# Altium schematic symbol library yu0316-NSC_LDO.SchLib: 2590 symbols (part 13 of 64)
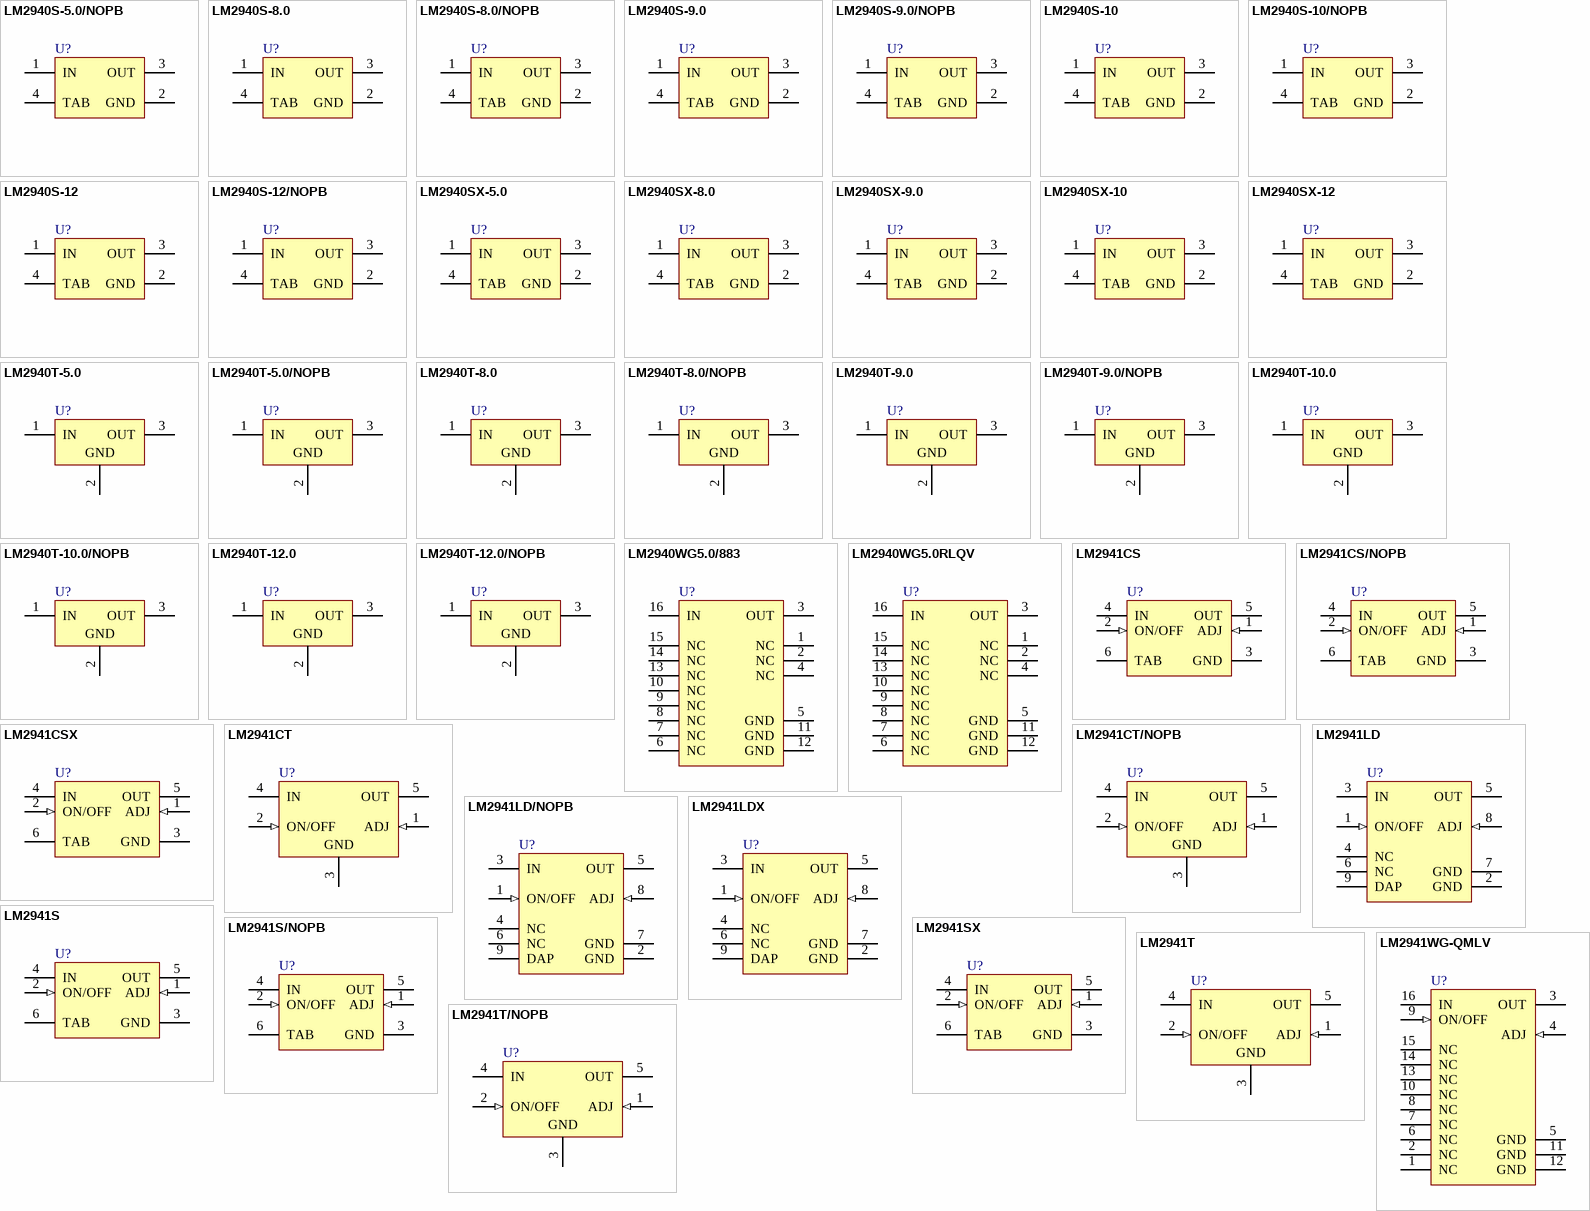
[diagram p77: symbols LM2940S-5.0/NOPB to LM2941WG-QMLV]

## LM2940S-10/NOPB
designator U?
1A Low Dropout Regulator, 3-pin TO-263, Pb-Free; PartNumber: LM2940S-10/NOPB; Manufacturer: National Semiconductor; PackageTopMarking: NSUZXYTTE#*LM2940S*-10 P+; PowerWise: N; CompType: LDO IC; Published: 1-Mar-2010; DatasheetVersion: Jan-2007; PackageVersion: revF, Apr-2005; PackageReference: TS3B; Publisher: Altium Limited; PackageDescription: TO-263, Molded, .400 x .390 x .180in, 3 Lead, .1in Pitch, Surface Mount; Supplier 1: Digi-Key; Supplier Part Number 1: LM2940S-10-ND; Supplier 2: Farnell; Supplier Part Number 2: 1685528; RoHS: Y; PinCount: 3; Code_JEDEC: MO-169-AA; ComponentLink1Description: LM2940 Datasheet; ComponentLink1URL: http://www.national.com/ds/LM/LM2940.pdf; ComponentLink2Description: LM2940 Web Page; ComponentLink2URL: http://www.national.com/pf/LM/LM2940.html; ComponentLink3Description: TS3B Package Page; ComponentLink3URL: http://www.national.com/packaging/folders/ts3b.html
footprint TS3B_N (D2-PAK, 4-Leads, Body 8.6x10.2mm, Pitch 2.54mm, Lead Span 14.2mm, IPC Medium Density)
footprint TS3B_L (D2-PAK, 4-Leads, Body 8.6x10.2mm, Pitch 2.54mm, Lead Span 14.2mm, IPC High Density)
footprint TS3B_M (D2-PAK, 4-Leads, Body 8.6x10.2mm, Pitch 2.54mm, Lead Span 14.2mm, IPC Low Density)
pins: 1 IN (power), 2 GND (power), 3 OUT (power), 4 TAB (power)

## LM2940S-12
designator U?
1A Low Dropout Regulator, 3-pin TO-263; PartNumber: LM2940S-12; Manufacturer: National Semiconductor; PackageTopMarking: NSUZXYTTE#*LM2940S*-12 P+; PowerWise: N; CompType: LDO IC; Published: 4-Dec-2008; DatasheetVersion: Jan-2007; PackageVersion: revF, Apr-2005; PackageReference: TS3B; Publisher: Altium Limited; PackageDescription: TO-263, Molded, .400 x .390 x .180in, 3 Lead, .1in Pitch, Surface Mount; Supplier 1: Farnell; Supplier Part Number 1: 953416; RoHS: N; PinCount: 3; Code_JEDEC: MO-169-AA; ComponentLink1Description: LM2940 Datasheet; ComponentLink1URL: http://www.national.com/ds/LM/LM2940.pdf; ComponentLink2Description: LM2940 Web Page; ComponentLink2URL: http://www.national.com/pf/LM/LM2940.html; ComponentLink3Description: TS3B Package Page; ComponentLink3URL: http://www.national.com/packaging/folders/ts3b.html
footprint TS3B_N (D2-PAK, 4-Leads, Body 8.6x10.2mm, Pitch 2.54mm, Lead Span 14.2mm, IPC Medium Density)
footprint TS3B_L (D2-PAK, 4-Leads, Body 8.6x10.2mm, Pitch 2.54mm, Lead Span 14.2mm, IPC High Density)
footprint TS3B_M (D2-PAK, 4-Leads, Body 8.6x10.2mm, Pitch 2.54mm, Lead Span 14.2mm, IPC Low Density)
pins: 1 IN (power), 2 GND (power), 3 OUT (power), 4 TAB (power)

## LM2940S-12/NOPB
designator U?
1A Low Dropout Regulator, 3-pin TO-263, Pb-Free; PartNumber: LM2940S-12/NOPB; Manufacturer: National Semiconductor; PackageTopMarking: NSUZXYTTE#*LM2940S*-12 P+; PowerWise: N; CompType: LDO IC; Published: 1-Mar-2010; DatasheetVersion: Jan-2007; PackageVersion: revF, Apr-2005; PackageReference: TS3B; Publisher: Altium Limited; PackageDescription: TO-263, Molded, .400 x .390 x .180in, 3 Lead, .1in Pitch, Surface Mount; Supplier 1: Digi-Key; Supplier Part Number 1: LM2940S-12-ND; Supplier 2: Farnell; Supplier Part Number 2: 1564769; RoHS: Y; PinCount: 3; Code_JEDEC: MO-169-AA; ComponentLink1Description: LM2940 Datasheet; ComponentLink1URL: http://www.national.com/ds/LM/LM2940.pdf; ComponentLink2Description: LM2940 Web Page; ComponentLink2URL: http://www.national.com/pf/LM/LM2940.html; ComponentLink3Description: TS3B Package Page; ComponentLink3URL: http://www.national.com/packaging/folders/ts3b.html
footprint TS3B_N (D2-PAK, 4-Leads, Body 8.6x10.2mm, Pitch 2.54mm, Lead Span 14.2mm, IPC Medium Density)
footprint TS3B_L (D2-PAK, 4-Leads, Body 8.6x10.2mm, Pitch 2.54mm, Lead Span 14.2mm, IPC High Density)
footprint TS3B_M (D2-PAK, 4-Leads, Body 8.6x10.2mm, Pitch 2.54mm, Lead Span 14.2mm, IPC Low Density)
pins: 1 IN (power), 2 GND (power), 3 OUT (power), 4 TAB (power)

## LM2940SX-5.0
designator U?
1A Low Dropout Regulator, 3-pin TO-263; PartNumber: LM2940SX-5.0; Manufacturer: National Semiconductor; PackageTopMarking: NSUZXYTTE#*LM2940S*-5.0 P+; PowerWise: N; CompType: LDO IC; Published: 1-Mar-2010; DatasheetVersion: Jan-2007; PackageVersion: revF, Apr-2005; PackageReference: TS3B; Publisher: Altium Limited; PackageDescription: TO-263, Molded, .400 x .390 x .180in, 3 Lead, .1in Pitch, Surface Mount; RoHS: N; PinCount: 3; Code_JEDEC: MO-169-AA; ComponentLink1Description: LM2940 Datasheet; ComponentLink1URL: http://www.national.com/ds/LM/LM2940.pdf; ComponentLink2Description: LM2940 Web Page; ComponentLink2URL: http://www.national.com/pf/LM/LM2940.html; ComponentLink3Description: TS3B Package Page; ComponentLink3URL: http://www.national.com/packaging/folders/ts3b.html
footprint TS3B_N (D2-PAK, 4-Leads, Body 8.6x10.2mm, Pitch 2.54mm, Lead Span 14.2mm, IPC Medium Density)
footprint TS3B_L (D2-PAK, 4-Leads, Body 8.6x10.2mm, Pitch 2.54mm, Lead Span 14.2mm, IPC High Density)
footprint TS3B_M (D2-PAK, 4-Leads, Body 8.6x10.2mm, Pitch 2.54mm, Lead Span 14.2mm, IPC Low Density)
pins: 1 IN (power), 2 GND (power), 3 OUT (power), 4 TAB (power)

## LM2940SX-8.0
designator U?
1A Low Dropout Regulator, 3-pin TO-263; PartNumber: LM2940SX-8.0; Manufacturer: National Semiconductor; PackageTopMarking: NSUZXYTTE#*LM2940S*-8.0 P+; PowerWise: N; CompType: LDO IC; Published: 1-Mar-2010; DatasheetVersion: Jan-2007; PackageVersion: revF, Apr-2005; PackageReference: TS3B; Publisher: Altium Limited; PackageDescription: TO-263, Molded, .400 x .390 x .180in, 3 Lead, .1in Pitch, Surface Mount; RoHS: N; PinCount: 3; Code_JEDEC: MO-169-AA; ComponentLink1Description: LM2940 Datasheet; ComponentLink1URL: http://www.national.com/ds/LM/LM2940.pdf; ComponentLink2Description: LM2940 Web Page; ComponentLink2URL: http://www.national.com/pf/LM/LM2940.html; ComponentLink3Description: TS3B Package Page; ComponentLink3URL: http://www.national.com/packaging/folders/ts3b.html
footprint TS3B_N (D2-PAK, 4-Leads, Body 8.6x10.2mm, Pitch 2.54mm, Lead Span 14.2mm, IPC Medium Density)
footprint TS3B_L (D2-PAK, 4-Leads, Body 8.6x10.2mm, Pitch 2.54mm, Lead Span 14.2mm, IPC High Density)
footprint TS3B_M (D2-PAK, 4-Leads, Body 8.6x10.2mm, Pitch 2.54mm, Lead Span 14.2mm, IPC Low Density)
pins: 1 IN (power), 2 GND (power), 3 OUT (power), 4 TAB (power)

## LM2940SX-9.0
designator U?
1A Low Dropout Regulator, 3-pin TO-263; PartNumber: LM2940SX-9.0; Manufacturer: National Semiconductor; PackageTopMarking: NSUZXYTTE#*LM2940S*-9.0 P+; PowerWise: N; CompType: LDO IC; Published: 1-Mar-2010; DatasheetVersion: Jan-2007; PackageVersion: revF, Apr-2005; PackageReference: TS3B; Publisher: Altium Limited; PackageDescription: TO-263, Molded, .400 x .390 x .180in, 3 Lead, .1in Pitch, Surface Mount; RoHS: N; PinCount: 3; Code_JEDEC: MO-169-AA; ComponentLink1Description: LM2940 Datasheet; ComponentLink1URL: http://www.national.com/ds/LM/LM2940.pdf; ComponentLink2Description: LM2940 Web Page; ComponentLink2URL: http://www.national.com/pf/LM/LM2940.html; ComponentLink3Description: TS3B Package Page; ComponentLink3URL: http://www.national.com/packaging/folders/ts3b.html
footprint TS3B_N (D2-PAK, 4-Leads, Body 8.6x10.2mm, Pitch 2.54mm, Lead Span 14.2mm, IPC Medium Density)
footprint TS3B_L (D2-PAK, 4-Leads, Body 8.6x10.2mm, Pitch 2.54mm, Lead Span 14.2mm, IPC High Density)
footprint TS3B_M (D2-PAK, 4-Leads, Body 8.6x10.2mm, Pitch 2.54mm, Lead Span 14.2mm, IPC Low Density)
pins: 1 IN (power), 2 GND (power), 3 OUT (power), 4 TAB (power)

## LM2940SX-10
designator U?
1A Low Dropout Regulator, 3-pin TO-263; PartNumber: LM2940SX-10; Manufacturer: National Semiconductor; PackageTopMarking: NSUZXYTTE#*LM2940S*-10 P+; PowerWise: N; CompType: LDO IC; Published: 1-Mar-2010; DatasheetVersion: Jan-2007; PackageVersion: revF, Apr-2005; PackageReference: TS3B; Publisher: Altium Limited; PackageDescription: TO-263, Molded, .400 x .390 x .180in, 3 Lead, .1in Pitch, Surface Mount; RoHS: N; PinCount: 3; Code_JEDEC: MO-169-AA; ComponentLink1Description: LM2940 Datasheet; ComponentLink1URL: http://www.national.com/ds/LM/LM2940.pdf; ComponentLink2Description: LM2940 Web Page; ComponentLink2URL: http://www.national.com/pf/LM/LM2940.html; ComponentLink3Description: TS3B Package Page; ComponentLink3URL: http://www.national.com/packaging/folders/ts3b.html
footprint TS3B_N (D2-PAK, 4-Leads, Body 8.6x10.2mm, Pitch 2.54mm, Lead Span 14.2mm, IPC Medium Density)
footprint TS3B_L (D2-PAK, 4-Leads, Body 8.6x10.2mm, Pitch 2.54mm, Lead Span 14.2mm, IPC High Density)
footprint TS3B_M (D2-PAK, 4-Leads, Body 8.6x10.2mm, Pitch 2.54mm, Lead Span 14.2mm, IPC Low Density)
pins: 1 IN (power), 2 GND (power), 3 OUT (power), 4 TAB (power)

## LM2940SX-12
designator U?
1A Low Dropout Regulator, 3-pin TO-263; PartNumber: LM2940SX-12; Manufacturer: National Semiconductor; PackageTopMarking: NSUZXYTTE#*LM2940S*-12 P+; PowerWise: N; CompType: LDO IC; Published: 1-Mar-2010; DatasheetVersion: Jan-2007; PackageVersion: revF, Apr-2005; PackageReference: TS3B; Publisher: Altium Limited; PackageDescription: TO-263, Molded, .400 x .390 x .180in, 3 Lead, .1in Pitch, Surface Mount; RoHS: N; PinCount: 3; Code_JEDEC: MO-169-AA; ComponentLink1Description: LM2940 Datasheet; ComponentLink1URL: http://www.national.com/ds/LM/LM2940.pdf; ComponentLink2Description: LM2940 Web Page; ComponentLink2URL: http://www.national.com/pf/LM/LM2940.html; ComponentLink3Description: TS3B Package Page; ComponentLink3URL: http://www.national.com/packaging/folders/ts3b.html
footprint TS3B_N (D2-PAK, 4-Leads, Body 8.6x10.2mm, Pitch 2.54mm, Lead Span 14.2mm, IPC Medium Density)
footprint TS3B_L (D2-PAK, 4-Leads, Body 8.6x10.2mm, Pitch 2.54mm, Lead Span 14.2mm, IPC High Density)
footprint TS3B_M (D2-PAK, 4-Leads, Body 8.6x10.2mm, Pitch 2.54mm, Lead Span 14.2mm, IPC Low Density)
pins: 1 IN (power), 2 GND (power), 3 OUT (power), 4 TAB (power)

## LM2940T-5.0
designator U?
1A Low Dropout Regulator, 3-pin TO-220; PartNumber: LM2940T-5.0; Manufacturer: National Semiconductor; PackageTopMarking: NSUZXYTTE#*LM2940T*-5.0 P+; PowerWise: N; CompType: LDO IC; Published: 4-Dec-2008; DatasheetVersion: Jan-2007; PackageVersion: revL, Jan-1992; PackageReference: T03B; Publisher: Altium Limited; PackageDescription: TO-220, Molded, 3 Lead, Straight; Supplier 1: Farnell; Supplier Part Number 1: 1523854; Supplier 2: Farnell; Supplier Part Number 2: 9490205; RoHS: N; PinCount: 3; ComponentLink1Description: LM2940 Datasheet; ComponentLink1URL: http://www.national.com/ds/LM/LM2940.pdf; ComponentLink2Description: LM2940 Web Page; ComponentLink2URL: http://www.national.com/pf/LM/LM2940.html; ComponentLink3Description: T03B Package Page; ComponentLink3URL: http://www.national.com/packaging/folders/t03b.html
footprint T03B (TO, Thru-Hole, Vertical, Heatsink Mounted; 3 In-Line Leads; Pitch 2.54 mm)
pins: 1 IN (power), 2 GND (power), 3 OUT (power)

## LM2940T-5.0/NOPB
designator U?
1A Low Dropout Regulator, 3-pin TO-220, Pb-Free; PartNumber: LM2940T-5.0/NOPB; Manufacturer: National Semiconductor; PackageTopMarking: NSUZXYTTE#*LM2940T*-5.0 P+; PowerWise: N; CompType: LDO IC; Published: 1-Mar-2010; DatasheetVersion: Jan-2007; PackageVersion: revL, Jan-1992; PackageReference: T03B; Publisher: Altium Limited; PackageDescription: TO-220, Molded, 3 Lead, Straight; Supplier 1: Digi-Key; Supplier Part Number 1: LM2940T-5.0-ND; Supplier 2: Farnell; Supplier Part Number 2: 1469078; RoHS: Y; PinCount: 3; ComponentLink1Description: LM2940 Datasheet; ComponentLink1URL: http://www.national.com/ds/LM/LM2940.pdf; ComponentLink2Description: LM2940 Web Page; ComponentLink2URL: http://www.national.com/pf/LM/LM2940.html; ComponentLink3Description: T03B Package Page; ComponentLink3URL: http://www.national.com/packaging/folders/t03b.html
footprint T03B (TO, Thru-Hole, Vertical, Heatsink Mounted; 3 In-Line Leads; Pitch 2.54 mm)
pins: 1 IN (power), 2 GND (power), 3 OUT (power)

## LM2940T-8.0
designator U?
1A Low Dropout Regulator, 3-pin TO-220; PartNumber: LM2940T-8.0; Manufacturer: National Semiconductor; PackageTopMarking: NSUZXYTTE#*LM2940T*-8.0 P+; PowerWise: N; CompType: LDO IC; Published: 4-Dec-2008; DatasheetVersion: Jan-2007; PackageVersion: revL, Jan-1992; PackageReference: T03B; Publisher: Altium Limited; PackageDescription: TO-220, Molded, 3 Lead, Straight; Supplier 1: Digi-Key; Supplier Part Number 1: LM2940T-8.0-ND; Supplier 2: Farnell; Supplier Part Number 2: 9490230; RoHS: N; PinCount: 3; ComponentLink1Description: LM2940 Datasheet; ComponentLink1URL: http://www.national.com/ds/LM/LM2940.pdf; ComponentLink2Description: LM2940 Web Page; ComponentLink2URL: http://www.national.com/pf/LM/LM2940.html; ComponentLink3Description: T03B Package Page; ComponentLink3URL: http://www.national.com/packaging/folders/t03b.html
footprint T03B (TO, Thru-Hole, Vertical, Heatsink Mounted; 3 In-Line Leads; Pitch 2.54 mm)
pins: 1 IN (power), 2 GND (power), 3 OUT (power)

## LM2940T-8.0/NOPB
designator U?
1A Low Dropout Regulator, 3-pin TO-220, Pb-Free; PartNumber: LM2940T-8.0/NOPB; Manufacturer: National Semiconductor; PackageTopMarking: NSUZXYTTE#*LM2940T*-8.0 P+; PowerWise: N; CompType: LDO IC; Published: 1-Mar-2010; DatasheetVersion: Jan-2007; PackageVersion: revL, Jan-1992; PackageReference: T03B; Publisher: Altium Limited; PackageDescription: TO-220, Molded, 3 Lead, Straight; Supplier 1: Digi-Key; Supplier Part Number 1: LM2940T-8.0/NOPB-ND; Supplier 2: Farnell; Supplier Part Number 2: 1514546; RoHS: Y; PinCount: 3; ComponentLink1Description: LM2940 Datasheet; ComponentLink1URL: http://www.national.com/ds/LM/LM2940.pdf; ComponentLink2Description: LM2940 Web Page; ComponentLink2URL: http://www.national.com/pf/LM/LM2940.html; ComponentLink3Description: T03B Package Page; ComponentLink3URL: http://www.national.com/packaging/folders/t03b.html
footprint T03B (TO, Thru-Hole, Vertical, Heatsink Mounted; 3 In-Line Leads; Pitch 2.54 mm)
pins: 1 IN (power), 2 GND (power), 3 OUT (power)

## LM2940T-9.0
designator U?
1A Low Dropout Regulator, 3-pin TO-220; PartNumber: LM2940T-9.0; Manufacturer: National Semiconductor; PackageTopMarking: NSUZXYTTE#*LM2940T*-9.0 P+; PowerWise: N; CompType: LDO IC; Published: 4-Dec-2008; DatasheetVersion: Jan-2007; PackageVersion: revL, Jan-1992; PackageReference: T03B; Publisher: Altium Limited; PackageDescription: TO-220, Molded, 3 Lead, Straight; Supplier 1: Farnell; Supplier Part Number 1: 9493514; RoHS: N; PinCount: 3; ComponentLink1Description: LM2940 Datasheet; ComponentLink1URL: http://www.national.com/ds/LM/LM2940.pdf; ComponentLink2Description: LM2940 Web Page; ComponentLink2URL: http://www.national.com/pf/LM/LM2940.html; ComponentLink3Description: T03B Package Page; ComponentLink3URL: http://www.national.com/packaging/folders/t03b.html
footprint T03B (TO, Thru-Hole, Vertical, Heatsink Mounted; 3 In-Line Leads; Pitch 2.54 mm)
pins: 1 IN (power), 2 GND (power), 3 OUT (power)

## LM2940T-9.0/NOPB
designator U?
1A Low Dropout Regulator, 3-pin TO-220, Pb-Free; PartNumber: LM2940T-9.0/NOPB; Manufacturer: National Semiconductor; PackageTopMarking: NSUZXYTTE#*LM2940T*-9.0 P+; PowerWise: N; CompType: LDO IC; Published: 1-Mar-2010; DatasheetVersion: Jan-2007; PackageVersion: revL, Jan-1992; PackageReference: T03B; Publisher: Altium Limited; PackageDescription: TO-220, Molded, 3 Lead, Straight; Supplier 1: Digi-Key; Supplier Part Number 1: LM2940T-9.0-ND; Supplier 2: Farnell; Supplier Part Number 2: 1559442; RoHS: Y; PinCount: 3; ComponentLink1Description: LM2940 Datasheet; ComponentLink1URL: http://www.national.com/ds/LM/LM2940.pdf; ComponentLink2Description: LM2940 Web Page; ComponentLink2URL: http://www.national.com/pf/LM/LM2940.html; ComponentLink3Description: T03B Package Page; ComponentLink3URL: http://www.national.com/packaging/folders/t03b.html
footprint T03B (TO, Thru-Hole, Vertical, Heatsink Mounted; 3 In-Line Leads; Pitch 2.54 mm)
pins: 1 IN (power), 2 GND (power), 3 OUT (power)

## LM2940T-10.0
designator U?
1A Low Dropout Regulator, 3-pin TO-220; PartNumber: LM2940T-10.0; Manufacturer: National Semiconductor; PackageTopMarking: NSUZXYTTE#*LM2940T*10.0 P+; PowerWise: N; CompType: LDO IC; Published: 4-Dec-2008; DatasheetVersion: Jan-2007; PackageVersion: revL, Jan-1992; PackageReference: T03B; Publisher: Altium Limited; PackageDescription: TO-220, Molded, 3 Lead, Straight; Supplier 1: Farnell; Supplier Part Number 1: 1523859; Supplier 2: Farnell; Supplier Part Number 2: 9493522; RoHS: N; PinCount: 3; ComponentLink1Description: LM2940 Datasheet; ComponentLink1URL: http://www.national.com/ds/LM/LM2940.pdf; ComponentLink2Description: LM2940 Web Page; ComponentLink2URL: http://www.national.com/pf/LM/LM2940.html; ComponentLink3Description: T03B Package Page; ComponentLink3URL: http://www.national.com/packaging/folders/t03b.html
footprint T03B (TO, Thru-Hole, Vertical, Heatsink Mounted; 3 In-Line Leads; Pitch 2.54 mm)
pins: 1 IN (power), 2 GND (power), 3 OUT (power)

## LM2940T-10.0/NOPB
designator U?
1A Low Dropout Regulator, 3-pin TO-220, Pb-Free; PartNumber: LM2940T-10.0/NOPB; Manufacturer: National Semiconductor; PackageTopMarking: NSUZXYTTE#*LM2940T*10.0 P+; PowerWise: N; CompType: LDO IC; Published: 1-Mar-2010; DatasheetVersion: Jan-2007; PackageVersion: revL, Jan-1992; PackageReference: T03B; Publisher: Altium Limited; PackageDescription: TO-220, Molded, 3 Lead, Straight; Supplier 1: Digi-Key; Supplier Part Number 1: LM2940T-10.0-ND; Supplier 2: Farnell; Supplier Part Number 2: 1514545; RoHS: Y; PinCount: 3; ComponentLink1Description: LM2940 Datasheet; ComponentLink1URL: http://www.national.com/ds/LM/LM2940.pdf; ComponentLink2Description: LM2940 Web Page; ComponentLink2URL: http://www.national.com/pf/LM/LM2940.html; ComponentLink3Description: T03B Package Page; ComponentLink3URL: http://www.national.com/packaging/folders/t03b.html
footprint T03B (TO, Thru-Hole, Vertical, Heatsink Mounted; 3 In-Line Leads; Pitch 2.54 mm)
pins: 1 IN (power), 2 GND (power), 3 OUT (power)

## LM2940T-12.0
designator U?
1A Low Dropout Regulator, 3-pin TO-220; PartNumber: LM2940T-12.0; Manufacturer: National Semiconductor; PackageTopMarking: NSUZXYTTE#*LM2940T*12.0 P+; PowerWise: N; CompType: LDO IC; Published: 4-Dec-2008; DatasheetVersion: Jan-2007; PackageVersion: revL, Jan-1992; PackageReference: T03B; Publisher: Altium Limited; PackageDescription: TO-220, Molded, 3 Lead, Straight; Supplier 1: Farnell; Supplier Part Number 1: 9485872; RoHS: N; PinCount: 3; ComponentLink1Description: LM2940 Datasheet; ComponentLink1URL: http://www.national.com/ds/LM/LM2940.pdf; ComponentLink2Description: LM2940 Web Page; ComponentLink2URL: http://www.national.com/pf/LM/LM2940.html; ComponentLink3Description: T03B Package Page; ComponentLink3URL: http://www.national.com/packaging/folders/t03b.html
footprint T03B (TO, Thru-Hole, Vertical, Heatsink Mounted; 3 In-Line Leads; Pitch 2.54 mm)
pins: 1 IN (power), 2 GND (power), 3 OUT (power)

## LM2940T-12.0/NOPB
designator U?
1A Low Dropout Regulator, 3-pin TO-220, Pb-Free; PartNumber: LM2940T-12.0/NOPB; Manufacturer: National Semiconductor; PackageTopMarking: NSUZXYTTE#*LM2940T*12.0 P+; PowerWise: N; CompType: LDO IC; Published: 1-Mar-2010; DatasheetVersion: Jan-2007; PackageVersion: revL, Jan-1992; PackageReference: T03B; Publisher: Altium Limited; PackageDescription: TO-220, Molded, 3 Lead, Straight; Supplier 1: Digi-Key; Supplier Part Number 1: LM2940T-12.0-ND; Supplier 2: Farnell; Supplier Part Number 2: 1150160; RoHS: Y; PinCount: 3; ComponentLink1Description: LM2940 Datasheet; ComponentLink1URL: http://www.national.com/ds/LM/LM2940.pdf; ComponentLink2Description: LM2940 Web Page; ComponentLink2URL: http://www.national.com/pf/LM/LM2940.html; ComponentLink3Description: T03B Package Page; ComponentLink3URL: http://www.national.com/packaging/folders/t03b.html
footprint T03B (TO, Thru-Hole, Vertical, Heatsink Mounted; 3 In-Line Leads; Pitch 2.54 mm)
pins: 1 IN (power), 2 GND (power), 3 OUT (power)

## LM2940WG5.0/883
designator U?
1A Low Dropout Regulator, 16-pin CerPACK; PartNumber: LM2940WG5.0/883; Manufacturer: National Semiconductor; PackageTopMarking: NSZSSXXYYA*LM2940WG5.0/*883 Q 5962-*8958701XA; PowerWise: N; CompType: LDO IC; High-Reliability: Y; Published: 4-Dec-2008; DatasheetVersion: May-2010; PackageVersion: revE, Jul-2007; PackageReference: WG16A; Publisher: Altium Limited; PackageDescription: Cerpack, .390 x .250 x .070in, 16 Lead, .050in Pitch, Gull Wing; RoHS: N; PinCount: 16; ComponentLink1Description: LM2940 Datasheet; ComponentLink1URL: http://www.national.com/ds/LM/LM2940QML.pdf; ComponentLink2Description: LM2940 Web Page; ComponentLink2URL: http://www.national.com/pf/LM/LM2940.html; ComponentLink3Description: WG16A Package Page; ComponentLink3URL: http://www.national.com/packaging/folders/wg16a.html
footprint WG16A_N (CERPACK, 16-Leads, Body 9.9x6.5mm, Pitch 1.27mm, IPC Medium Density)
footprint WG16A_L (CERPACK, 16-Leads, Body 9.9x6.5mm, Pitch 1.27mm, IPC High Density)
footprint WG16A_M (CERPACK, 16-Leads, Body 9.9x6.5mm, Pitch 1.27mm, IPC Low Density)
pins: 1 NC, 2 NC, 3 OUT (power), 4 NC, 5 GND (power), 6 NC, 7 NC, 8 NC, 9 NC, 10 NC, 11 GND (power), 12 GND (power), 13 NC, 14 NC, 15 NC, 16 IN (power)

## LM2940WG5.0RLQV
designator U?
1A Low Dropout Regulator, 16 pin CERPACK; PartNumber: LM2940WG5.0RLQV; Manufacturer: National Semiconductor; PackageTopMarking: NSZSSXXYYA*LM2940WG5.0*RLQV Q 5962R*8958702VXA; PowerWise: N; CompType: LDO IC; High-Reliability: Y; Published: 16-Nov-2010; DatasheetVersion: May-2010; PackageVersion: revE, Jul-2007; PackageReference: WG16A; Publisher: Altium Limited; PackageDescription: Cerpack, .390 x .250 x .070in, 16 Lead, .050in Pitch, Gull Wing; RoHS: N; PinCount: 16; ComponentLink1Description: LM2940 Datasheet; ComponentLink1URL: http://www.national.com/ds/LM/LM2940QML.pdf; ComponentLink2Description: LM2940 Web Page; ComponentLink2URL: http://www.national.com/pf/LM/LM2940.html; ComponentLink3Description: WG16A Package Page; ComponentLink3URL: http://www.national.com/packaging/folders/wg16a.html
footprint WG16A_N (CERPACK, 16-Leads, Body 9.9x6.5mm, Pitch 1.27mm, IPC Medium Density)
footprint WG16A_L (CERPACK, 16-Leads, Body 9.9x6.5mm, Pitch 1.27mm, IPC High Density)
footprint WG16A_M (CERPACK, 16-Leads, Body 9.9x6.5mm, Pitch 1.27mm, IPC Low Density)
pins: 1 NC, 2 NC, 3 OUT (power), 4 NC, 5 GND (power), 6 NC, 7 NC, 8 NC, 9 NC, 10 NC, 11 GND (power), 12 GND (power), 13 NC, 14 NC, 15 NC, 16 IN (power)

## LM2941CS
designator U?
1A Low Dropout Adjustable Regulator, 5-pin TO-263; PartNumber: LM2941CS; Manufacturer: National Semiconductor; PackageTopMarking: NSUZXYTTE#*LM2941CS*P+; PowerWise: N; CompType: LDO IC; Published: 4-Dec-2008; DatasheetVersion: Nov-2007; PackageVersion: revD, Apr-2005; PackageReference: TS5B; Publisher: Altium Limited; PackageDescription: TO-263, Molded, .400 x .390 x .180in, 5 Lead, .067in Pitch, Surface Mount; RoHS: N; PinCount: 5; Code_JEDEC: MO-169-AB; ComponentLink1Description: LM2941C Datasheet; ComponentLink1URL: http://www.national.com/ds/LM/LM2941C.pdf; ComponentLink2Description: LM2941C Web Page; ComponentLink2URL: http://www.national.com/pf/LM/LM2941C.html; ComponentLink3Description: TS5B Package Page; ComponentLink3URL: http://www.national.com/packaging/folders/ts5b.html
footprint TS5B_N (D2-PAK, 6-Leads, Body 8.6x10.2mm, Pitch 1.7mm, Lead Span 14.1mm, IPC Medium Density)
footprint TS5B_L (D2-PAK, 6-Leads, Body 8.6x10.2mm, Pitch 1.7mm, Lead Span 14.1mm, IPC High Density)
footprint TS5B_M (D2-PAK, 6-Leads, Body 8.6x10.2mm, Pitch 1.7mm, Lead Span 14.1mm, IPC Low Density)
pins: 1 ADJ (in), 2 ON/OFF (in), 3 GND (power), 4 IN (power), 5 OUT (power), 6 TAB (power)

## LM2941CS/NOPB
designator U?
1A Low Dropout Adjustable Regulator, 5-pin TO-263, Pb-Free; PartNumber: LM2941CS/NOPB; Manufacturer: National Semiconductor; PackageTopMarking: NSUZXYTTE#*LM2941CS*P+; PowerWise: N; CompType: LDO IC; Published: 1-Mar-2010; DatasheetVersion: Nov-2007; PackageVersion: revD, Apr-2005; PackageReference: TS5B; Publisher: Altium Limited; PackageDescription: TO-263, Molded, .400 x .390 x .180in, 5 Lead, .067in Pitch, Surface Mount; Supplier 1: Digi-Key; Supplier Part Number 1: LM2941CS-ND; Supplier 2: Farnell; Supplier Part Number 2: 1469079; RoHS: Y; PinCount: 5; Code_JEDEC: MO-169-AB; ComponentLink1Description: LM2941C Datasheet; ComponentLink1URL: http://www.national.com/ds/LM/LM2941C.pdf; ComponentLink2Description: LM2941C Web Page; ComponentLink2URL: http://www.national.com/pf/LM/LM2941C.html; ComponentLink3Description: TS5B Package Page; ComponentLink3URL: http://www.national.com/packaging/folders/ts5b.html
footprint TS5B_N (D2-PAK, 6-Leads, Body 8.6x10.2mm, Pitch 1.7mm, Lead Span 14.1mm, IPC Medium Density)
footprint TS5B_L (D2-PAK, 6-Leads, Body 8.6x10.2mm, Pitch 1.7mm, Lead Span 14.1mm, IPC High Density)
footprint TS5B_M (D2-PAK, 6-Leads, Body 8.6x10.2mm, Pitch 1.7mm, Lead Span 14.1mm, IPC Low Density)
pins: 1 ADJ (in), 2 ON/OFF (in), 3 GND (power), 4 IN (power), 5 OUT (power), 6 TAB (power)

## LM2941CSX
designator U?
1A Low Dropout Adjustable Regulator, 5-pin TO-263; PartNumber: LM2941CSX; Manufacturer: National Semiconductor; PackageTopMarking: NSUZXYTTE#*LM2941CS*P+; PowerWise: N; CompType: LDO IC; Published: 1-Mar-2010; DatasheetVersion: Nov-2007; PackageVersion: revD, Apr-2005; PackageReference: TS5B; Publisher: Altium Limited; PackageDescription: TO-263, Molded, .400 x .390 x .180in, 5 Lead, .067in Pitch, Surface Mount; RoHS: N; PinCount: 5; Code_JEDEC: MO-169-AB; ComponentLink1Description: LM2941C Datasheet; ComponentLink1URL: http://www.national.com/ds/LM/LM2941C.pdf; ComponentLink2Description: LM2941C Web Page; ComponentLink2URL: http://www.national.com/pf/LM/LM2941C.html; ComponentLink3Description: TS5B Package Page; ComponentLink3URL: http://www.national.com/packaging/folders/ts5b.html
footprint TS5B_N (D2-PAK, 6-Leads, Body 8.6x10.2mm, Pitch 1.7mm, Lead Span 14.1mm, IPC Medium Density)
footprint TS5B_L (D2-PAK, 6-Leads, Body 8.6x10.2mm, Pitch 1.7mm, Lead Span 14.1mm, IPC High Density)
footprint TS5B_M (D2-PAK, 6-Leads, Body 8.6x10.2mm, Pitch 1.7mm, Lead Span 14.1mm, IPC Low Density)
pins: 1 ADJ (in), 2 ON/OFF (in), 3 GND (power), 4 IN (power), 5 OUT (power), 6 TAB (power)

## LM2941CT
designator U?
1A Low Dropout Adjustable Regulator, 5-pin TO-220; PartNumber: LM2941CT; Manufacturer: National Semiconductor; PackageTopMarking: NSUZXYTTE#*LM2941CT*P+; PowerWise: N; CompType: LDO IC; Published: 4-Dec-2008; DatasheetVersion: Nov-2007; PackageVersion: revJ, Jan-1992; PackageReference: T05A; Publisher: Altium Limited; PackageDescription: TO-220, Molded, 5 Lead, Straight; Supplier 1: Farnell; Supplier Part Number 1: 9489371; RoHS: N; PinCount: 5; Code_JEDEC: TO-220-AB; ComponentLink1Description: LM2941C Datasheet; ComponentLink1URL: http://www.national.com/ds/LM/LM2941C.pdf; ComponentLink2Description: LM2941C Web Page; ComponentLink2URL: http://www.national.com/pf/LM/LM2941C.html; ComponentLink3Description: T05A Package Page; ComponentLink3URL: http://www.national.com/packaging/folders/t05a.html
footprint T05A (TO, Thru-Hole, Vertical, Heatsink Mounted; 5 In-Line Leads; Pitch 1.70 mm)
pins: 1 ADJ (in), 2 ON/OFF (in), 3 GND (power), 4 IN (power), 5 OUT (power)

## LM2941CT/NOPB
designator U?
1A Low Dropout Adjustable Regulator, 5-pin TO-220, Pb-Free; PartNumber: LM2941CT/NOPB; Manufacturer: National Semiconductor; PackageTopMarking: NSUZXYTTE#*LM2941CT*P+; PowerWise: N; CompType: LDO IC; Published: 1-Mar-2010; DatasheetVersion: Nov-2007; PackageVersion: revJ, Jan-1992; PackageReference: T05A; Publisher: Altium Limited; PackageDescription: TO-220, Molded, 5 Lead, Straight; Supplier 1: Digi-Key; Supplier Part Number 1: LM2941CT-ND; Supplier 2: Farnell; Supplier Part Number 2: 1150163; RoHS: Y; PinCount: 5; Code_JEDEC: TO-220-AB; ComponentLink1Description: LM2941C Datasheet; ComponentLink1URL: http://www.national.com/ds/LM/LM2941C.pdf; ComponentLink2Description: LM2941C Web Page; ComponentLink2URL: http://www.national.com/pf/LM/LM2941C.html; ComponentLink3Description: T05A Package Page; ComponentLink3URL: http://www.national.com/packaging/folders/t05a.html
footprint T05A (TO, Thru-Hole, Vertical, Heatsink Mounted; 5 In-Line Leads; Pitch 1.70 mm)
pins: 1 ADJ (in), 2 ON/OFF (in), 3 GND (power), 4 IN (power), 5 OUT (power)

## LM2941LD
designator U?
1A Low Dropout Adjustable Regulator, 8-pin LLP; PartNumber: LM2941LD; Manufacturer: National Semiconductor; PackageTopMarking: NS*UZXYTT*L2941LD; PowerWise: N; CompType: LDO IC; Published: 4-Dec-2008; DatasheetVersion: Nov-2007; PackageVersion: revB, Jun-2003; PackageReference: LDC08A; Publisher: Altium Limited; PackageDescription: LLP, Plastic, Dual, 4 x 4 x 0.75mm Body, 8 Lead, 0.8mm Pitch; Supplier 1: Farnell; Supplier Part Number 1: 1798362; RoHS: N; PinCount: 8; ComponentLink1Description: LM2941 Datasheet; ComponentLink1URL: http://www.national.com/ds/LM/LM2941.pdf; ComponentLink2Description: LM2941 Web Page; ComponentLink2URL: http://www.national.com/pf/LM/LM2941.html; ComponentLink3Description: LDC08A Package Page; ComponentLink3URL: http://www.national.com/packaging/folders/ldc08a.html
footprint LDC08A (PSON, 8-Leads, Body 4x4mm, Pitch 0.8mm, NSC Recommended)
pins: 1 ON/OFF (in), 2 GND (power), 3 IN (power), 4 NC, 5 OUT (power), 6 NC, 7 GND (power), 8 ADJ (in), 9 DAP (power)

## LM2941LD/NOPB
designator U?
1A Low Dropout Adjustable Regulator, 8-pin LLP, Pb-Free; PartNumber: LM2941LD/NOPB; Manufacturer: National Semiconductor; PackageTopMarking: NS*UZXYTT*L2941LD; PowerWise: N; CompType: LDO IC; Published: 1-Mar-2010; DatasheetVersion: Nov-2007; PackageVersion: revB, Jun-2003; PackageReference: LDC08A; Publisher: Altium Limited; PackageDescription: LLP, Plastic, Dual, 4 x 4 x 0.75mm Body, 8 Lead, 0.8mm Pitch; Supplier 1: Digi-Key; Supplier Part Number 1: LM2941LD-ND; RoHS: Y; PinCount: 8; ComponentLink1Description: LM2941 Datasheet; ComponentLink1URL: http://www.national.com/ds/LM/LM2941.pdf; ComponentLink2Description: LM2941 Web Page; ComponentLink2URL: http://www.national.com/pf/LM/LM2941.html; ComponentLink3Description: LDC08A Package Page; ComponentLink3URL: http://www.national.com/packaging/folders/ldc08a.html
footprint LDC08A (PSON, 8-Leads, Body 4x4mm, Pitch 0.8mm, NSC Recommended)
pins: 1 ON/OFF (in), 2 GND (power), 3 IN (power), 4 NC, 5 OUT (power), 6 NC, 7 GND (power), 8 ADJ (in), 9 DAP (power)

## LM2941LDX
designator U?
1A Low Dropout Adjustable Regulator, 8-pin LLP; PartNumber: LM2941LDX; Manufacturer: National Semiconductor; PackageTopMarking: NS*UZXYTT*L2941LD; PowerWise: N; CompType: LDO IC; Published: 1-Mar-2010; DatasheetVersion: Nov-2007; PackageVersion: revB, Jun-2003; PackageReference: LDC08A; Publisher: Altium Limited; PackageDescription: LLP, Plastic, Dual, 4 x 4 x 0.75mm Body, 8 Lead, 0.8mm Pitch; RoHS: N; PinCount: 8; ComponentLink1Description: LM2941 Datasheet; ComponentLink1URL: http://www.national.com/ds/LM/LM2941.pdf; ComponentLink2Description: LM2941 Web Page; ComponentLink2URL: http://www.national.com/pf/LM/LM2941.html; ComponentLink3Description: LDC08A Package Page; ComponentLink3URL: http://www.national.com/packaging/folders/ldc08a.html
footprint LDC08A (PSON, 8-Leads, Body 4x4mm, Pitch 0.8mm, NSC Recommended)
pins: 1 ON/OFF (in), 2 GND (power), 3 IN (power), 4 NC, 5 OUT (power), 6 NC, 7 GND (power), 8 ADJ (in), 9 DAP (power)

## LM2941S
designator U?
1A Low Dropout Adjustable Regulator, 5-pin TO-263; PartNumber: LM2941S; Manufacturer: National Semiconductor; PackageTopMarking: NSUZXYTTE#*LM2941S*P+; PowerWise: N; CompType: LDO IC; Published: 4-Dec-2008; DatasheetVersion: Nov-2007; PackageVersion: revD, Apr-2005; PackageReference: TS5B; Publisher: Altium Limited; PackageDescription: TO-263, Molded, .400 x .390 x .180in, 5 Lead, .067in Pitch, Surface Mount; Supplier 1: Farnell; Supplier Part Number 1: 9494456; RoHS: N; PinCount: 5; Code_JEDEC: MO-169-AB; ComponentLink1Description: LM2941 Datasheet; ComponentLink1URL: http://www.national.com/ds/LM/LM2941.pdf; ComponentLink2Description: LM2941 Web Page; ComponentLink2URL: http://www.national.com/pf/LM/LM2941.html; ComponentLink3Description: TS5B Package Page; ComponentLink3URL: http://www.national.com/packaging/folders/ts5b.html
footprint TS5B_N (D2-PAK, 6-Leads, Body 8.6x10.2mm, Pitch 1.7mm, Lead Span 14.1mm, IPC Medium Density)
footprint TS5B_L (D2-PAK, 6-Leads, Body 8.6x10.2mm, Pitch 1.7mm, Lead Span 14.1mm, IPC High Density)
footprint TS5B_M (D2-PAK, 6-Leads, Body 8.6x10.2mm, Pitch 1.7mm, Lead Span 14.1mm, IPC Low Density)
pins: 1 ADJ (in), 2 ON/OFF (in), 3 GND (power), 4 IN (power), 5 OUT (power), 6 TAB (power)

## LM2941S/NOPB
designator U?
1A Low Dropout Adjustable Regulator, 5-pin TO-263, Pb-Free; PartNumber: LM2941S/NOPB; Manufacturer: National Semiconductor; PackageTopMarking: NSUZXYTTE#*LM2941S*P+; PowerWise: N; CompType: LDO IC; Published: 1-Mar-2010; DatasheetVersion: Nov-2007; PackageVersion: revD, Apr-2005; PackageReference: TS5B; Publisher: Altium Limited; PackageDescription: TO-263, Molded, .400 x .390 x .180in, 5 Lead, .067in Pitch, Surface Mount; Supplier 1: Digi-Key; Supplier Part Number 1: LM2941S-ND; Supplier 2: Farnell; Supplier Part Number 2: 1150164; RoHS: Y; PinCount: 5; Code_JEDEC: MO-169-AB; ComponentLink1Description: LM2941 Datasheet; ComponentLink1URL: http://www.national.com/ds/LM/LM2941.pdf; ComponentLink2Description: LM2941 Web Page; ComponentLink2URL: http://www.national.com/pf/LM/LM2941.html; ComponentLink3Description: TS5B Package Page; ComponentLink3URL: http://www.national.com/packaging/folders/ts5b.html
footprint TS5B_N (D2-PAK, 6-Leads, Body 8.6x10.2mm, Pitch 1.7mm, Lead Span 14.1mm, IPC Medium Density)
footprint TS5B_L (D2-PAK, 6-Leads, Body 8.6x10.2mm, Pitch 1.7mm, Lead Span 14.1mm, IPC High Density)
footprint TS5B_M (D2-PAK, 6-Leads, Body 8.6x10.2mm, Pitch 1.7mm, Lead Span 14.1mm, IPC Low Density)
pins: 1 ADJ (in), 2 ON/OFF (in), 3 GND (power), 4 IN (power), 5 OUT (power), 6 TAB (power)

## LM2941SX
designator U?
1A Low Dropout Adjustable Regulator, 5-pin TO-263; PartNumber: LM2941SX; Manufacturer: National Semiconductor; PackageTopMarking: NSUZXYTTE#*LM2941S*P+; PowerWise: N; CompType: LDO IC; Published: 1-Mar-2010; DatasheetVersion: Nov-2007; PackageVersion: revD, Apr-2005; PackageReference: TS5B; Publisher: Altium Limited; PackageDescription: TO-263, Molded, .400 x .390 x .180in, 5 Lead, .067in Pitch, Surface Mount; RoHS: N; PinCount: 5; Code_JEDEC: MO-169-AB; ComponentLink1Description: LM2941 Datasheet; ComponentLink1URL: http://www.national.com/ds/LM/LM2941.pdf; ComponentLink2Description: LM2941 Web Page; ComponentLink2URL: http://www.national.com/pf/LM/LM2941.html; ComponentLink3Description: TS5B Package Page; ComponentLink3URL: http://www.national.com/packaging/folders/ts5b.html
footprint TS5B_N (D2-PAK, 6-Leads, Body 8.6x10.2mm, Pitch 1.7mm, Lead Span 14.1mm, IPC Medium Density)
footprint TS5B_L (D2-PAK, 6-Leads, Body 8.6x10.2mm, Pitch 1.7mm, Lead Span 14.1mm, IPC High Density)
footprint TS5B_M (D2-PAK, 6-Leads, Body 8.6x10.2mm, Pitch 1.7mm, Lead Span 14.1mm, IPC Low Density)
pins: 1 ADJ (in), 2 ON/OFF (in), 3 GND (power), 4 IN (power), 5 OUT (power), 6 TAB (power)

## LM2941T
designator U?
1A Low Dropout Adjustable Regulator, 5-pin TO-220; PartNumber: LM2941T; Manufacturer: National Semiconductor; PackageTopMarking: NSUZXYTTE#*LM2941T*P+; PowerWise: N; CompType: LDO IC; Published: 4-Dec-2008; DatasheetVersion: Nov-2007; PackageVersion: revJ, Jan-1992; PackageReference: T05A; Publisher: Altium Limited; PackageDescription: TO-220, Molded, 5 Lead, Straight; Supplier 1: Farnell; Supplier Part Number 1: 7592619; RoHS: N; PinCount: 5; Code_JEDEC: TO-220-AB; ComponentLink1Description: LM2941 Datasheet; ComponentLink1URL: http://www.national.com/ds/LM/LM2941.pdf; ComponentLink2Description: LM2941 Web Page; ComponentLink2URL: http://www.national.com/pf/LM/LM2941.html; ComponentLink3Description: T05A Package Page; ComponentLink3URL: http://www.national.com/packaging/folders/t05a.html
footprint T05A (TO, Thru-Hole, Vertical, Heatsink Mounted; 5 In-Line Leads; Pitch 1.70 mm)
pins: 1 ADJ (in), 2 ON/OFF (in), 3 GND (power), 4 IN (power), 5 OUT (power)

## LM2941T/NOPB
designator U?
1A Low Dropout Adjustable Regulator, 5-pin TO-220, Pb-Free; PartNumber: LM2941T/NOPB; Manufacturer: National Semiconductor; PackageTopMarking: NSUZXYTTE#*LM2941T*P+; PowerWise: N; CompType: LDO IC; Published: 1-Mar-2010; DatasheetVersion: Nov-2007; PackageVersion: revJ, Jan-1992; PackageReference: T05A; Publisher: Altium Limited; PackageDescription: TO-220, Molded, 5 Lead, Straight; Supplier 1: Digi-Key; Supplier Part Number 1: LM2941T/NOPB-ND; Supplier 2: Farnell; Supplier Part Number 2: 1564645; RoHS: Y; PinCount: 5; Code_JEDEC: TO-220-AB; ComponentLink1Description: LM2941 Datasheet; ComponentLink1URL: http://www.national.com/ds/LM/LM2941.pdf; ComponentLink2Description: LM2941 Web Page; ComponentLink2URL: http://www.national.com/pf/LM/LM2941.html; ComponentLink3Description: T05A Package Page; ComponentLink3URL: http://www.national.com/packaging/folders/t05a.html
footprint T05A (TO, Thru-Hole, Vertical, Heatsink Mounted; 5 In-Line Leads; Pitch 1.70 mm)
pins: 1 ADJ (in), 2 ON/OFF (in), 3 GND (power), 4 IN (power), 5 OUT (power)

## LM2941WG-QMLV
designator U?
1A Low Dropout Adjustable Regulator, 16-pin CerPACK; PartNumber: LM2941WG-QMLV; Manufacturer: National Semiconductor; PackageTopMarking: NSZSSXXYYA*LM2941WG-*QV Q 5962-*9166701VYA; PowerWise: N; CompType: LDO IC; High-Reliability: Y; Published: 4-Dec-2008; DatasheetVersion: Nov-2007; PackageVersion: revE, Jul-2007; PackageReference: WG16A; Publisher: Altium Limited; PackageDescription: Cerpack, .390 x .250 x .070in, 16 Lead, .050in Pitch, Gull Wing; RoHS: N; PinCount: 16; ComponentLink1Description: LM2941 Datasheet; ComponentLink1URL: http://www.national.com/ds/LM/LM2941QML.pdf; ComponentLink2Description: LM2941 Web Page; ComponentLink2URL: http://www.national.com/pf/LM/LM2941.html; ComponentLink3Description: WG16A Package Page; ComponentLink3URL: http://www.national.com/packaging/folders/wg16a.html
footprint WG16A_N (CERPACK, 16-Leads, Body 9.9x6.5mm, Pitch 1.27mm, IPC Medium Density)
footprint WG16A_L (CERPACK, 16-Leads, Body 9.9x6.5mm, Pitch 1.27mm, IPC High Density)
footprint WG16A_M (CERPACK, 16-Leads, Body 9.9x6.5mm, Pitch 1.27mm, IPC Low Density)
pins: 1 NC, 2 NC, 3 OUT (power), 4 ADJ (in), 5 GND (power), 6 NC, 7 NC, 8 NC, 9 ON/OFF (in), 10 NC, 11 GND (power), 12 GND (power), 13 NC, 14 NC, 15 NC, 16 IN (power)

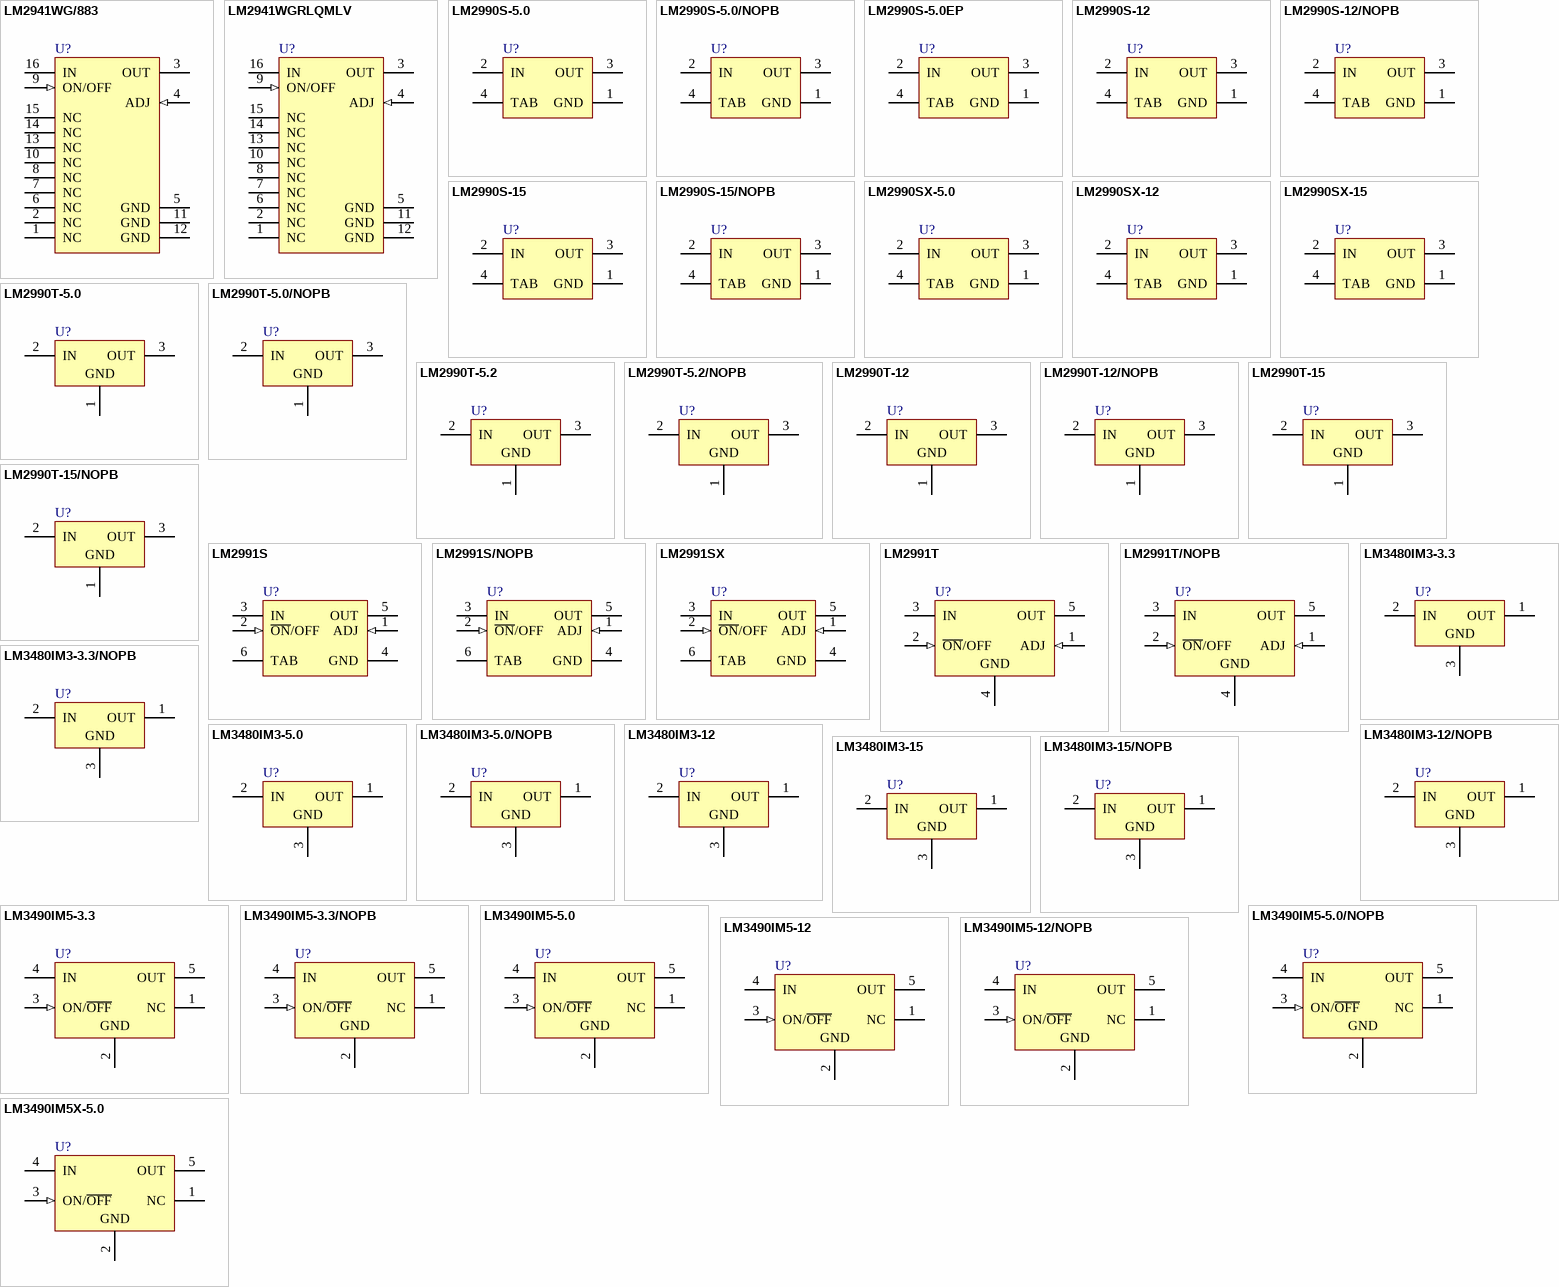
[diagram p14: symbols LM2941WG/883 to LM3490IM5X-5.0]

## LM2941WG/883
designator U?
1A Low Dropout Adjustable Regulator, 16-pin CerPACK; PartNumber: LM2941WG/883; Manufacturer: National Semiconductor; PackageTopMarking: NSZSSXXYYA*LM2941WG/*883 Q 5962-*9166701QYA; PowerWise: N; CompType: LDO IC; High-Reliability: Y; Published: 4-Dec-2008; DatasheetVersion: Nov-2007; PackageVersion: revE, Jul-2007; PackageReference: WG16A; Publisher: Altium Limited; PackageDescription: Cerpack, .390 x .250 x .070in, 16 Lead, .050in Pitch, Gull Wing; RoHS: N; PinCount: 16; ComponentLink1Description: LM2941 Datasheet; ComponentLink1URL: http://www.national.com/ds/LM/LM2941QML.pdf; ComponentLink2Description: LM2941 Web Page; ComponentLink2URL: http://www.national.com/pf/LM/LM2941.html; ComponentLink3Description: WG16A Package Page; ComponentLink3URL: http://www.national.com/packaging/folders/wg16a.html
footprint WG16A_N (CERPACK, 16-Leads, Body 9.9x6.5mm, Pitch 1.27mm, IPC Medium Density)
footprint WG16A_L (CERPACK, 16-Leads, Body 9.9x6.5mm, Pitch 1.27mm, IPC High Density)
footprint WG16A_M (CERPACK, 16-Leads, Body 9.9x6.5mm, Pitch 1.27mm, IPC Low Density)
pins: 1 NC, 2 NC, 3 OUT (power), 4 ADJ (in), 5 GND (power), 6 NC, 7 NC, 8 NC, 9 ON/OFF (in), 10 NC, 11 GND (power), 12 GND (power), 13 NC, 14 NC, 15 NC, 16 IN (power)

## LM2941WGRLQMLV
designator U?
1A Low Dropout Adjustable Regulator, 16-pin CerPACK; PartNumber: LM2941WGRLQMLV; Manufacturer: National Semiconductor; PackageTopMarking: NSZSSXXYYA*LM2941WGRL*QV Q 5962R*9166702VYA; PowerWise: N; CompType: LDO IC; High-Reliability: Y; Published: 9-Oct-2009; DatasheetVersion: Apr-2009; PackageVersion: revE, Jul-2007; PackageReference: WG16A; Publisher: Altium Limited; PackageDescription: Cerpack, .390 x .250 x .070in, 16 Lead, .050in Pitch, Gull Wing; RoHS: N; PinCount: 16; ComponentLink1Description: LM2941 Datasheet; ComponentLink1URL: http://www.national.com/ds/LM/LM2941QML.pdf; ComponentLink2Description: LM2941 Web Page; ComponentLink2URL: http://www.national.com/pf/LM/LM2941.html; ComponentLink3Description: WG16A Package Page; ComponentLink3URL: http://www.national.com/packaging/folders/wg16a.html
footprint WG16A_N (CERPACK, 16-Leads, Body 9.9x6.5mm, Pitch 1.27mm, IPC Medium Density)
footprint WG16A_L (CERPACK, 16-Leads, Body 9.9x6.5mm, Pitch 1.27mm, IPC High Density)
footprint WG16A_M (CERPACK, 16-Leads, Body 9.9x6.5mm, Pitch 1.27mm, IPC Low Density)
pins: 1 NC, 2 NC, 3 OUT (power), 4 ADJ (in), 5 GND (power), 6 NC, 7 NC, 8 NC, 9 ON/OFF (in), 10 NC, 11 GND (power), 12 GND (power), 13 NC, 14 NC, 15 NC, 16 IN (power)

## LM2990S-5.0
designator U?
Negative Low Dropout Regulator, 3-pin TO-263; PartNumber: LM2990S-5.0; Manufacturer: National Semiconductor; PackageTopMarking: NSUZXYTTE#*LM2990S*-5.0 P+; PowerWise: N; CompType: LDO IC; Published: 4-Dec-2008; DatasheetVersion: Jun-2005; PackageVersion: revF, Apr-2005; PackageReference: TS3B; Publisher: Altium Limited; PackageDescription: TO-263, Molded, .400 x .390 x .180in, 3 Lead, .1in Pitch, Surface Mount; Supplier 1: Farnell; Supplier Part Number 1: 7592620; RoHS: N; PinCount: 3; Code_JEDEC: MO-169-AA; ComponentLink1Description: LM2990 Datasheet; ComponentLink1URL: http://www.national.com/ds/LM/LM2990.pdf; ComponentLink2Description: LM2990 Web Page; ComponentLink2URL: http://www.national.com/pf/LM/LM2990.html; ComponentLink3Description: TS3B Package Page; ComponentLink3URL: http://www.national.com/packaging/folders/ts3b.html
footprint TS3B_N (D2-PAK, 4-Leads, Body 8.6x10.2mm, Pitch 2.54mm, Lead Span 14.2mm, IPC Medium Density)
footprint TS3B_L (D2-PAK, 4-Leads, Body 8.6x10.2mm, Pitch 2.54mm, Lead Span 14.2mm, IPC High Density)
footprint TS3B_M (D2-PAK, 4-Leads, Body 8.6x10.2mm, Pitch 2.54mm, Lead Span 14.2mm, IPC Low Density)
pins: 1 GND (power), 2 IN (power), 3 OUT (power), 4 TAB (power)

## LM2990S-5.0/NOPB
designator U?
Negative Low Dropout Regulator, 3-pin TO-263, Pb-Free; PartNumber: LM2990S-5.0/NOPB; Manufacturer: National Semiconductor; PackageTopMarking: NSUZXYTTE#*LM2990S*-5.0 P+; PowerWise: N; CompType: LDO IC; Published: 1-Mar-2010; DatasheetVersion: Jun-2005; PackageVersion: revF, Apr-2005; PackageReference: TS3B; Publisher: Altium Limited; PackageDescription: TO-263, Molded, .400 x .390 x .180in, 3 Lead, .1in Pitch, Surface Mount; Supplier 1: Digi-Key; Supplier Part Number 1: LM2990S-5.0-ND; Supplier 2: Farnell; Supplier Part Number 2: 1469082; RoHS: Y; PinCount: 3; Code_JEDEC: MO-169-AA; ComponentLink1Description: LM2990 Datasheet; ComponentLink1URL: http://www.national.com/ds/LM/LM2990.pdf; ComponentLink2Description: LM2990 Web Page; ComponentLink2URL: http://www.national.com/pf/LM/LM2990.html; ComponentLink3Description: TS3B Package Page; ComponentLink3URL: http://www.national.com/packaging/folders/ts3b.html
footprint TS3B_N (D2-PAK, 4-Leads, Body 8.6x10.2mm, Pitch 2.54mm, Lead Span 14.2mm, IPC Medium Density)
footprint TS3B_L (D2-PAK, 4-Leads, Body 8.6x10.2mm, Pitch 2.54mm, Lead Span 14.2mm, IPC High Density)
footprint TS3B_M (D2-PAK, 4-Leads, Body 8.6x10.2mm, Pitch 2.54mm, Lead Span 14.2mm, IPC Low Density)
pins: 1 GND (power), 2 IN (power), 3 OUT (power), 4 TAB (power)

## LM2990S-5.0EP
designator U?
Negative Low Dropout Regulator, 3-pin TO-263; PartNumber: LM2990S-5.0EP; Manufacturer: National Semiconductor; PackageTopMarking: NSUZXYTTE#*LM2990S*-5.0 E; PowerWise: N; CompType: LDO IC; Published: 4-Dec-2008; DatasheetVersion: Jun-2005; PackageVersion: revF, Apr-2005; PackageReference: TS3B; Publisher: Altium Limited; PackageDescription: TO-263, Molded, .400 x .390 x .180in, 3 Lead, .1in Pitch, Surface Mount; RoHS: N; PinCount: 3; Code_JEDEC: MO-169-AA; ComponentLink1Description: LM2990 Datasheet; ComponentLink1URL: http://www.national.com/ds/LM/LM2990.pdf; ComponentLink2Description: LM2990 Web Page; ComponentLink2URL: http://www.national.com/pf/LM/LM2990.html; ComponentLink3Description: TS3B Package Page; ComponentLink3URL: http://www.national.com/packaging/folders/ts3b.html
footprint TS3B_N (D2-PAK, 4-Leads, Body 8.6x10.2mm, Pitch 2.54mm, Lead Span 14.2mm, IPC Medium Density)
footprint TS3B_L (D2-PAK, 4-Leads, Body 8.6x10.2mm, Pitch 2.54mm, Lead Span 14.2mm, IPC High Density)
footprint TS3B_M (D2-PAK, 4-Leads, Body 8.6x10.2mm, Pitch 2.54mm, Lead Span 14.2mm, IPC Low Density)
pins: 1 GND (power), 2 IN (power), 3 OUT (power), 4 TAB (power)

## LM2990S-12
designator U?
Negative Low Dropout Regulator, 3-pin TO-263; PartNumber: LM2990S-12; Manufacturer: National Semiconductor; PackageTopMarking: NSUZXYTTE#*LM2990S*-12 P+; PowerWise: N; CompType: LDO IC; Published: 4-Dec-2008; DatasheetVersion: Jun-2005; PackageVersion: revF, Apr-2005; PackageReference: TS3B; Publisher: Altium Limited; PackageDescription: TO-263, Molded, .400 x .390 x .180in, 3 Lead, .1in Pitch, Surface Mount; RoHS: N; PinCount: 3; Code_JEDEC: MO-169-AA; ComponentLink1Description: LM2990 Datasheet; ComponentLink1URL: http://www.national.com/ds/LM/LM2990.pdf; ComponentLink2Description: LM2990 Web Page; ComponentLink2URL: http://www.national.com/pf/LM/LM2990.html; ComponentLink3Description: TS3B Package Page; ComponentLink3URL: http://www.national.com/packaging/folders/ts3b.html
footprint TS3B_N (D2-PAK, 4-Leads, Body 8.6x10.2mm, Pitch 2.54mm, Lead Span 14.2mm, IPC Medium Density)
footprint TS3B_L (D2-PAK, 4-Leads, Body 8.6x10.2mm, Pitch 2.54mm, Lead Span 14.2mm, IPC High Density)
footprint TS3B_M (D2-PAK, 4-Leads, Body 8.6x10.2mm, Pitch 2.54mm, Lead Span 14.2mm, IPC Low Density)
pins: 1 GND (power), 2 IN (power), 3 OUT (power), 4 TAB (power)

## LM2990S-12/NOPB
designator U?
Negative Low Dropout Regulator, 3-pin TO-263, Pb-Free; PartNumber: LM2990S-12/NOPB; Manufacturer: National Semiconductor; PackageTopMarking: NSUZXYTTE#*LM2990S*-12 P+; PowerWise: N; CompType: LDO IC; Published: 1-Mar-2010; DatasheetVersion: Jun-2005; PackageVersion: revF, Apr-2005; PackageReference: TS3B; Publisher: Altium Limited; PackageDescription: TO-263, Molded, .400 x .390 x .180in, 3 Lead, .1in Pitch, Surface Mount; Supplier 1: Digi-Key; Supplier Part Number 1: LM2990S-12-ND; Supplier 2: Farnell; Supplier Part Number 2: 1469080; RoHS: Y; PinCount: 3; Code_JEDEC: MO-169-AA; ComponentLink1Description: LM2990 Datasheet; ComponentLink1URL: http://www.national.com/ds/LM/LM2990.pdf; ComponentLink2Description: LM2990 Web Page; ComponentLink2URL: http://www.national.com/pf/LM/LM2990.html; ComponentLink3Description: TS3B Package Page; ComponentLink3URL: http://www.national.com/packaging/folders/ts3b.html
footprint TS3B_N (D2-PAK, 4-Leads, Body 8.6x10.2mm, Pitch 2.54mm, Lead Span 14.2mm, IPC Medium Density)
footprint TS3B_L (D2-PAK, 4-Leads, Body 8.6x10.2mm, Pitch 2.54mm, Lead Span 14.2mm, IPC High Density)
footprint TS3B_M (D2-PAK, 4-Leads, Body 8.6x10.2mm, Pitch 2.54mm, Lead Span 14.2mm, IPC Low Density)
pins: 1 GND (power), 2 IN (power), 3 OUT (power), 4 TAB (power)

## LM2990S-15
designator U?
Negative Low Dropout Regulator, 3-pin TO-263; PartNumber: LM2990S-15; Manufacturer: National Semiconductor; PackageTopMarking: NSUZXYTTE#*LM2990S*-15 P+; PowerWise: N; CompType: LDO IC; Published: 4-Dec-2008; DatasheetVersion: Jun-2005; PackageVersion: revF, Apr-2005; PackageReference: TS3B; Publisher: Altium Limited; PackageDescription: TO-263, Molded, .400 x .390 x .180in, 3 Lead, .1in Pitch, Surface Mount; RoHS: N; PinCount: 3; Code_JEDEC: MO-169-AA; ComponentLink1Description: LM2990 Datasheet; ComponentLink1URL: http://www.national.com/ds/LM/LM2990.pdf; ComponentLink2Description: LM2990 Web Page; ComponentLink2URL: http://www.national.com/pf/LM/LM2990.html; ComponentLink3Description: TS3B Package Page; ComponentLink3URL: http://www.national.com/packaging/folders/ts3b.html
footprint TS3B_N (D2-PAK, 4-Leads, Body 8.6x10.2mm, Pitch 2.54mm, Lead Span 14.2mm, IPC Medium Density)
footprint TS3B_L (D2-PAK, 4-Leads, Body 8.6x10.2mm, Pitch 2.54mm, Lead Span 14.2mm, IPC High Density)
footprint TS3B_M (D2-PAK, 4-Leads, Body 8.6x10.2mm, Pitch 2.54mm, Lead Span 14.2mm, IPC Low Density)
pins: 1 GND (power), 2 IN (power), 3 OUT (power), 4 TAB (power)

## LM2990S-15/NOPB
designator U?
Negative Low Dropout Regulator, 3-pin TO-263, Pb-Free; PartNumber: LM2990S-15/NOPB; Manufacturer: National Semiconductor; PackageTopMarking: NSUZXYTTE#*LM2990S*-15 P+; PowerWise: N; CompType: LDO IC; Published: 1-Mar-2010; DatasheetVersion: Jun-2005; PackageVersion: revF, Apr-2005; PackageReference: TS3B; Publisher: Altium Limited; PackageDescription: TO-263, Molded, .400 x .390 x .180in, 3 Lead, .1in Pitch, Surface Mount; Supplier 1: Digi-Key; Supplier Part Number 1: LM2990S-15-ND; Supplier 2: Farnell; Supplier Part Number 2: 1469081; RoHS: Y; PinCount: 3; Code_JEDEC: MO-169-AA; ComponentLink1Description: LM2990 Datasheet; ComponentLink1URL: http://www.national.com/ds/LM/LM2990.pdf; ComponentLink2Description: LM2990 Web Page; ComponentLink2URL: http://www.national.com/pf/LM/LM2990.html; ComponentLink3Description: TS3B Package Page; ComponentLink3URL: http://www.national.com/packaging/folders/ts3b.html
footprint TS3B_N (D2-PAK, 4-Leads, Body 8.6x10.2mm, Pitch 2.54mm, Lead Span 14.2mm, IPC Medium Density)
footprint TS3B_L (D2-PAK, 4-Leads, Body 8.6x10.2mm, Pitch 2.54mm, Lead Span 14.2mm, IPC High Density)
footprint TS3B_M (D2-PAK, 4-Leads, Body 8.6x10.2mm, Pitch 2.54mm, Lead Span 14.2mm, IPC Low Density)
pins: 1 GND (power), 2 IN (power), 3 OUT (power), 4 TAB (power)